# EAGLE library part ESP-M2 (library ESP-01F)
ESP8285 Module - M2
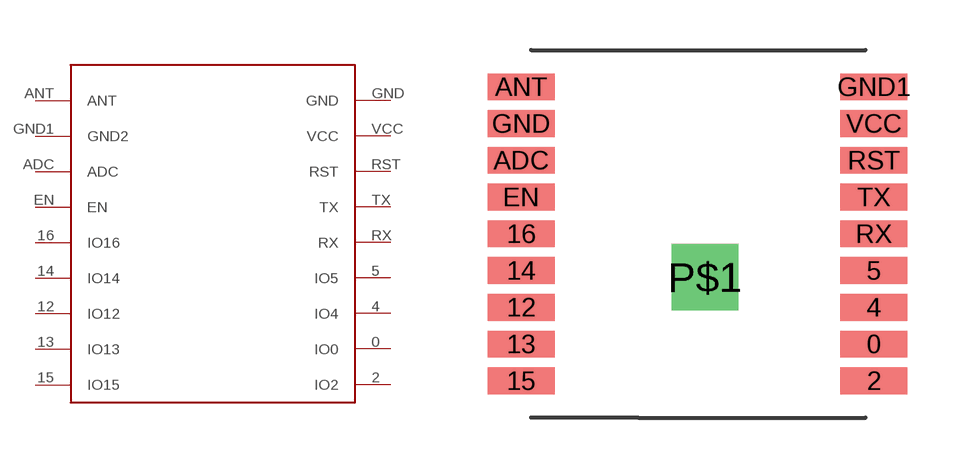
[diagram p0: symbol with the pads of ESP-M2; footprint ESP-M2]

Designator prefix -

## ESP-M2 (AVAILABILITY: Unavailable; DESCRIPTION: Wifi Module; MF: Doctors of Intelligence & Technology Co., LTD; MP: ESP-M2; PACKAGE: Package Analog Devices; PRICE: None)  [ESP-M2]
0  IO0
2  IO2
4  IO4
5  IO5
12  IO12
13  IO13
14  IO14
15  IO15
16  IO16
ADC  ADC
ANT  ANT
EN  EN
GND  GND
GND1  GND2
RST  RST
RX  RX
TX  TX
VCC  VCC

## Footprint ESP-M2 (pad centres in mm)
ESP8285 Module Model M2
smd 2 x 0.8: 0 5.25,-8.8; 2 5.25,-9.9; 4 5.25,-7.7; 5 5.25,-6.6; 12 -5.3,-7.7; 13 -5.3,-8.8; 14 -5.3,-6.6; 15 -5.3,-9.9; 16 -5.3,-5.5; ADC -5.3,-3.3; ANT -5.3,-1.1; EN -5.3,-4.4; GND -5.3,-2.2; GND1 5.25,-1.1; RST 5.25,-3.3; RX 5.25,-5.5; TX 5.25,-4.4; VCC 5.25,-2.2
drill 1 pad 2 square: P$1 0.2,-6.8